# Altium schematic symbol library ESCLib.SchLib: 5 symbols
Pins are listed as number, name and electrical type; pins without a type are passive.

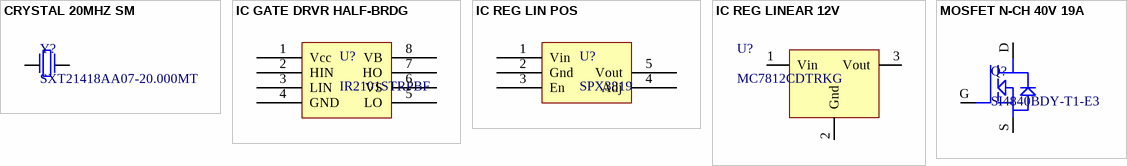
[diagram p0: symbols CRYSTAL 20MHZ SM to MOSFET N-CH 40V 19A]

## CRYSTAL 20MHZ SM
designator Y?, comment SXT21418AA07-20.000MT
20MHz ±50ppm Crystal 18pF 200 Ohms 4-SMD, No Lead
footprint 4-SMD-XTAL-SM
pins: 1, 3

## IC GATE DRVR HALF-BRDG
designator U?, comment IR2101STRPBF
IC GATE DRVR HALF-BRIDGE 8SOIC; Parameter 1: *
footprint 8-SOIC (SOIC, 8-Leads, Body 4.90x3.90mm, Pitch 1.27mm, IPC Medium Density)
pins: 1 Vcc, 2 HIN, 3 LIN, 4 GND, 5 LO, 6 VS, 7 HO, 8 VB

## IC REG LIN POS
designator U?, comment SPX3819
IC REG LIN POS ADJ 500MA SOT23-5
footprint SOT-23-5
pins: 1 Vin, 2 Gnd, 3 En, 4 Adj, 5 Vout

## IC REG LINEAR 12V
designator U?, comment MC7812CDTRKG
IC REG LINEAR 12V 1A DPAK
footprint TO-252; pin to pad 2>3 3>2
pins: 1 Vin, 2 Gnd, 3 Vout

## MOSFET N-CH 40V 19A
designator Q?, comment SI4840BDY-T1-E3
MOSFET N-CH 40V 19A 8SOIC
footprint SOIC-8 (SOIC, 8-Leads, Body 4.90x3.90mm, Pitch 1.27mm, IPC Medium Density); pin to pad D>5 D1>6 D2>7 D3>8 G>4 S>3 S1>2 S2>1
pins: D, D1, D2, D3, G, S, S1, S2